# Altium integrated library sot23-8.IntLib: 1 symbol
Pins are listed as number, name and electrical type; pins without a type are passive.

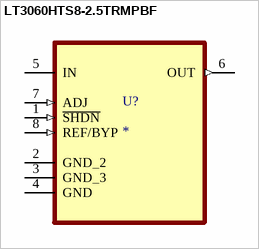
[diagram p0: symbol LT3060HTS8-2.5TRMPBF]

## LT3060HTS8-2.5TRMPBF
designator U?
Linear Voltage Regulator IC 1 Output 100mA TSOT-23-8; MF: Analog Devices; MP: LT3060HTS8-2.5#TRMPBF; Package: SOT-23-8 Analog Devices; Availability: Warning; Value: *; Purchase-URL: https://pricing.snapeda.com/search/part/LT3060HTS8-2.5#TRMPBF/?ref=eda; Check_prices: https://www.snapeda.com/parts/LT3060HTS8-2.5%23TRMPBF/Analog%20Devices/view-part/4334169/?ref=eda; Price: None; SnapEDA_Link: https://www.snapeda.com/parts/LT3060HTS8-2.5%23TRMPBF/Analog%20Devices/view-part/4334169/?ref=snap
footprint SOT65P280X100-8N
pins: 1 ~{SHDN} (in), 2 GND_2, 3 GND_3, 4 GND, 5 IN (power), 6 OUT (out), 7 ADJ (in), 8 REF/BYP (in)